# Altium schematic symbol library Schlib1.SchLib: 6 symbols
Pins are listed as number, name and electrical type; pins without a type are passive.

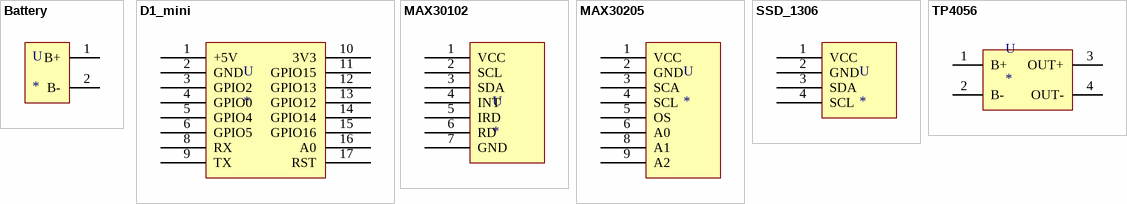
[diagram p0: symbols Battery to TP4056]

## Battery
designator U
pins: 1 B+, 2 B-

## D1_mini
designator U
pins: 1 +5V, 2 GND, 3 GPIO2, 4 GPIO0 "SCL", 5 GPIO4, 6 GPIO5, 8 RX, 9 TX, 10 3V3, 11 GPIO15, 12 GPIO13, 13 GPIO12, 14 GPIO14, 15 GPIO16, 16 A0, 17 RST

## MAX30102
designator U
pins: 1 VCC "VIN", 2 SCL, 3 SDA, 4 INT, 5 IRD, 6 RD, 7 GND

## MAX30205
designator U
pins: 1 VCC, 2 GND, 3 SCA "SDA", 4 SCL, 5 OS, 6 A0, 8 A1, 9 A2

## SSD_1306
designator U
pins: 1 VCC, 2 GND, 3 SDA, 4 SCL

## TP4056
designator U
pins: 1 B+, 2 B-, 3 OUT+ (power), 4 OUT- (power)